# EAGLE library part DIPSWITCH_X4 (library switches)
DIL/CODE SWITCH
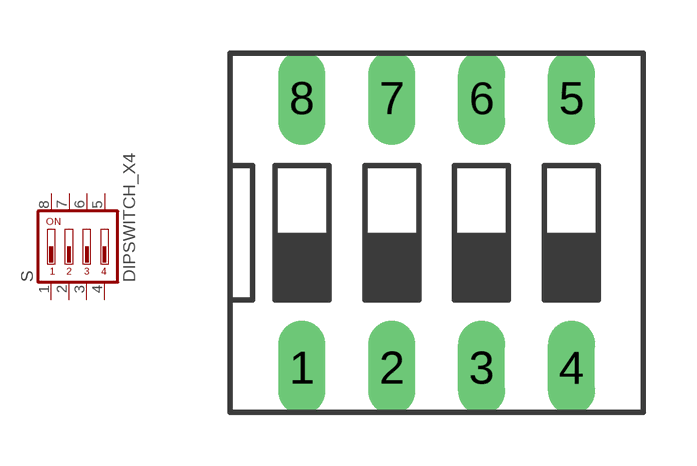
[diagram p1: symbol with the pads of DIPSWITCH_X4; footprint DIPSWITCH_X4]

Designator prefix S

## DIPSWITCH_X4  [DIPSWITCH_X4]
1  1  pas
2  2  pas
3  3  pas
4  4  pas
5  5  pas
6  6  pas
7  7  pas
8  8  pas

## Footprint DIPSWITCH_X4 (pad centres in mm)
DIL/CODE SWITCH Mors distributor Buerklin, 17G554
drill 0.813 long: 1 -3.81,-3.81; 2 -1.27,-3.81; 3 1.27,-3.81; 4 3.81,-3.81; 5 3.81,3.81; 6 1.27,3.81; 7 -1.27,3.81; 8 -3.81,3.81